# EAGLE library part FT230X (library FSAE Electric)
FTDI USB to Serial IC
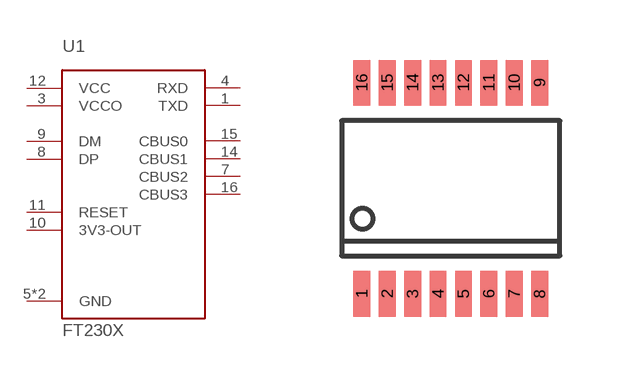
[diagram p42: symbol with the pads of SSOP-16; footprint SSOP-16]

Designator prefix U1

## FT230X (PARTNO: FT230XS-R)  [SSOP-16]
1  TXD
3  VCCO
4  RXD
5  GND
7  CBUS2
8  DP
9  DM
10  3V3-OUT
11  RESET
12  VCC
13  GND
14  CBUS1
15  CBUS0
16  CBUS3

## Footprint SSOP-16 (pad centres in mm)
smd 0.419 x 1.143: 1 -2.223,-2.642; 2 -1.587,-2.642; 3 -0.953,-2.642; 4 -0.318,-2.642; 5 0.318,-2.642; 6 0.953,-2.642; 7 1.587,-2.642; 8 2.223,-2.642; 9 2.223,2.642; 10 1.587,2.642; 11 0.953,2.642; 12 0.318,2.642; 13 -0.318,2.642; 14 -0.953,2.642; 15 -1.587,2.642; 16 -2.223,2.642